# Altium footprint library 1206.PcbLib: 1 footprints
Each footprint in its own frame and in the unit in brackets; x right, y up, seen from the top. Pads: shape width x height; smd on the part's side, far side on the other; paste and mask are expansions set on the pad; w line width, h text height; cw(c..) or ccw(c..) is an arc to the next point about the centre after c.
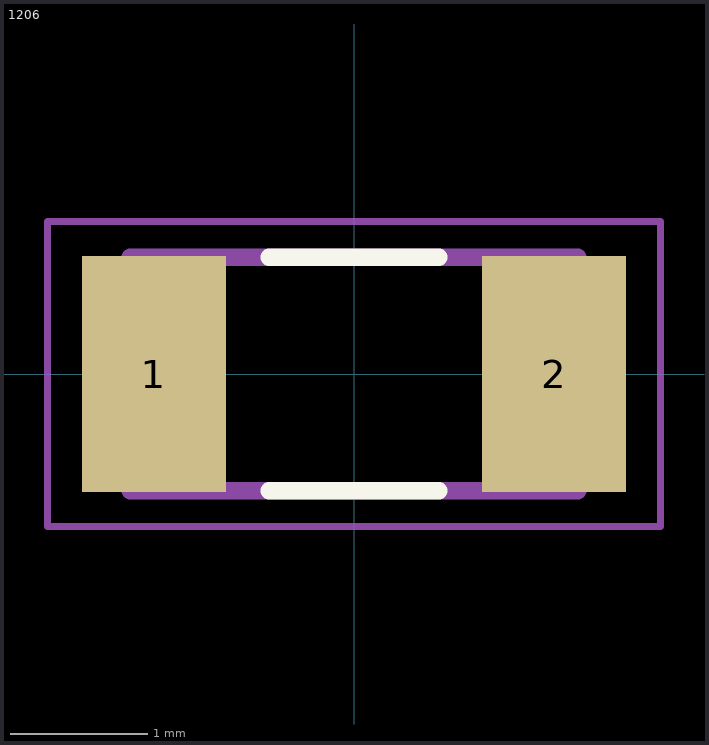
[diagram p0: the footprint, top view; thin cyan lines are the x and y axes]

## 1206 [mm]
pads (2):
  rect 1.05x1.72 smd: 1(-1.46,0) 2(1.46,0)
Top Overlay:
  lines w0.127: -0.62,-0.85 0.62,-0.85 ; -0.62,0.85 0.62,0.85
Mechanical 4:
  lines w0.127: -1.63,-0.85 -1.63,0.85 ; -1.63,-0.85 1.63,-0.85 ; -1.63,-0.85 -1.63,0.85 ; -1.63,-0.85 1.63,-0.85 ; -1.63,0.85 1.63,0.85 ; -1.63,0.85 1.63,0.85 ; 1.63,-0.85 1.63,0.85 ; 1.63,-0.85 1.63,0.85
Mechanical 15:
  lines w0.05: -2.235,-1.112 2.235,-1.112 2.235,1.112 -2.235,1.112 -2.235,-1.112